# Altium footprint library MINI_360_Module.PcbLib: 1 footprints
Each footprint in its own frame and in the unit in brackets; x right, y up, seen from the top. Pads: shape width x height; smd on the part's side, far side on the other; paste and mask are expansions set on the pad; w line width, h text height; cw(c..) or ccw(c..) is an arc to the next point about the centre after c.
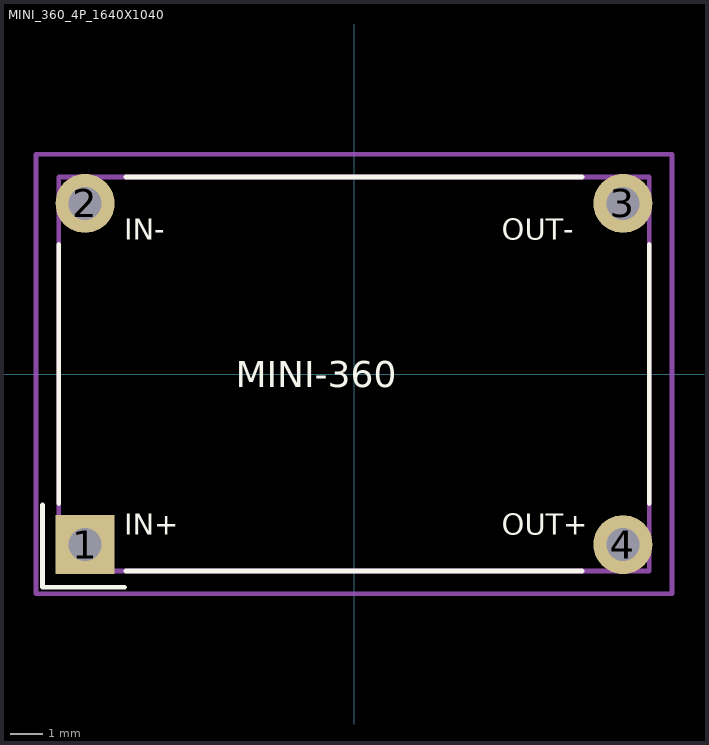
[diagram p0: the footprint, top view; thin cyan lines are the x and y axes]

## MINI_360_4P_1640X1040 [mm] "MINI-360 HW-187 model geometry; 18x12 mm; four wire/header connections"
height 5.75
pads (4):
  rect 1.8x1.8 hole 1 mask+0.1: 1(-8.2,-5.2)
  round 1.8 hole 1 mask+0.1: 2(-8.2,5.2) 3(8.2,5.2) 4(8.2,-5.2)
Top Overlay:
  lines w0.15: -9.5,-4 -9.5,-6.5 -7,-6.5 ; -9,-3.95 -9,3.95 ; -6.95,-6 6.95,-6 ; -6.95,6 6.95,6 ; 9,-3.95 9,3.95
  text "IN+" at -7,-4.9 h0.65
  text "IN-" at -7,4.1 h0.65
  text "OUT-" at 4.5,4.1 h0.65
  text "OUT+" at 4.5,-4.9 h0.65
  text "MINI-360" at -3.6,-0.4 h0.8
Mechanical 13:
  lines w0.15: -9,-6 9,-6 9,6 -9,6 -9,-6
Mechanical 15:
  lines w0.15: -9.7,-6.7 9.7,-6.7 9.7,6.7 -9.7,6.7 -9.7,-6.7
3D body "MINI_360_HW187.step": height 5.75, standoff 2, extent -9,-6 9,6